# EAGLE library part MC9S08DV60-64 (library freescale-hcs08)
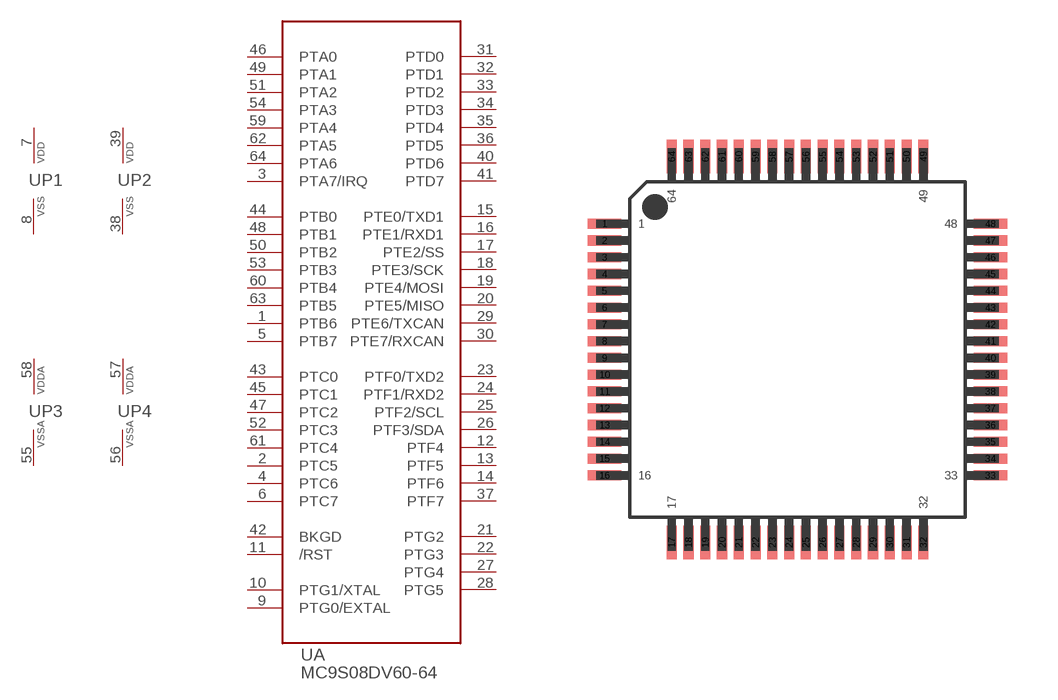
[diagram p7: symbol with the pads of LQFP64; footprint LQFP64]

Designator prefix -; gates A=MC9S08DV60-64 P1=VDD-VSS P2=VDD-VSS P3=VDDA-VSSA P4=VDDA-VSSA

## MC9S08DV60-64  [LQFP64]
1  A:PTB6
2  A:PTC5
3  A:PTA7/IRQ
4  A:PTC6
5  A:PTB7
6  A:PTC7
7  P1:VDD  pwr
8  P1:VSS  pwr
9  A:PTG0/EXTAL
10  A:PTG1/XTAL
11  A:/RST
12  A:PTF4
13  A:PTF5
14  A:PTF6
15  A:PTE0/TXD1
16  A:PTE1/RXD1
17  A:PTE2/SS
18  A:PTE3/SCK
19  A:PTE4/MOSI
20  A:PTE5/MISO
21  A:PTG2
22  A:PTG3
23  A:PTF0/TXD2
24  A:PTF1/RXD2
25  A:PTF2/SCL
26  A:PTF3/SDA
27  A:PTG4
28  A:PTG5
29  A:PTE6/TXCAN
30  A:PTE7/RXCAN
31  A:PTD0
32  A:PTD1
33  A:PTD2
34  A:PTD3
35  A:PTD4
36  A:PTD5
37  A:PTF7
38  P2:VSS  pwr
39  P2:VDD  pwr
40  A:PTD6
41  A:PTD7
42  A:BKGD
43  A:PTC0
44  A:PTB0
45  A:PTC1
46  A:PTA0
47  A:PTC2
48  A:PTB1
49  A:PTA1
50  A:PTB2
51  A:PTA2
52  A:PTC3
53  A:PTB3
54  A:PTA3
55  P3:VSSA  pwr
56  P4:VSSA  pwr
57  P4:VDDA  pwr
58  P3:VDDA  pwr
59  A:PTA4
60  A:PTB4
61  A:PTC4
62  A:PTA5
63  A:PTB5
64  A:PTA6

## Footprint LQFP64 (pad centres in mm)
smd 1 x 0.3: 1 -5.75,3.75; 2 -5.75,3.25; 3 -5.75,2.75; 4 -5.75,2.25; 5 -5.75,1.75; 6 -5.75,1.25; 7 -5.75,0.75; 8 -5.75,0.25; 9 -5.75,-0.25; 10 -5.75,-0.75; 11 -5.75,-1.25; 12 -5.75,-1.75; 13 -5.75,-2.25; 14 -5.75,-2.75; 15 -5.75,-3.25; 16 -5.75,-3.75; 33 5.75,-3.75; 34 5.75,-3.25; 35 5.75,-2.75; 36 5.75,-2.25; 37 5.75,-1.75; 38 5.75,-1.25; 39 5.75,-0.75; 40 5.75,-0.25; 41 5.75,0.25; 42 5.75,0.75; 43 5.75,1.25; 44 5.75,1.75; 45 5.75,2.25; 46 5.75,2.75; 47 5.75,3.25; 48 5.75,3.75
smd 0.3 x 1: 17 -3.75,-5.75; 18 -3.25,-5.75; 19 -2.75,-5.75; 20 -2.25,-5.75; 21 -1.75,-5.75; 22 -1.25,-5.75; 23 -0.75,-5.75; 24 -0.25,-5.75; 25 0.25,-5.75; 26 0.75,-5.75; 27 1.25,-5.75; 28 1.75,-5.75; 29 2.25,-5.75; 30 2.75,-5.75; 31 3.25,-5.75; 32 3.75,-5.75; 49 3.75,5.75; 50 3.25,5.75; 51 2.75,5.75; 52 2.25,5.75; 53 1.75,5.75; 54 1.25,5.75; 55 0.75,5.75; 56 0.25,5.75; 57 -0.25,5.75; 58 -0.75,5.75; 59 -1.25,5.75; 60 -1.75,5.75; 61 -2.25,5.75; 62 -2.75,5.75; 63 -3.25,5.75; 64 -3.75,5.75